# EAGLE library part M22-71310XX (library Harwin)
Harwin M22-71310XX - 10pos single row female pin hdr, 2mm pitch Datasheet: https://cdn.harwin.com/pdfs/M22-713.pdf
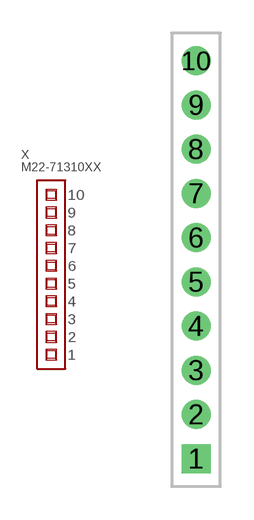
[diagram p3: symbol with the pads of M22-71310XX; footprint M22-71310XX]

Designator prefix X

## M22-71310XX (PARTNO: M22-7131042)  [M22-71310XX]
1  1
2  2
3  3
4  4
5  5
6  6
7  7
8  8
9  9
10  10

## Footprint M22-71310XX (pad centres in mm)
Harwin M22-71310XX - 10pos single row female pin hdr, 2mm pitch Datasheet: https://cdn.harwin.com/pdfs/M22-713.pdf
drill 0.8 square: 1 0,-9
drill 0.8 round: 2 0,-7; 3 0,-5; 4 0,-3; 5 0,-1; 6 0,1; 7 0,3; 8 0,5; 9 0,7; 10 0,9